# Altium schematic symbol library FBB.SchLib: 1 symbol
Pins are listed as number, name and electrical type; pins without a type are passive.

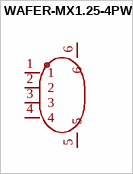
[diagram p0: symbol WAFER-MX1.25-4PWB]

## WAFER-MX1.25-4PWB
designator U??  (value not drawn)
Manufacturer: XUNPU(讯普); Add into BOM: yes; Pins Structure: 1x4P; Pitch: 1.25mm; Reference Series: PicoBlade(MX 1.25); Number of PINs Per Row: 4; Current Rating: 1A; Voltage Rating: 125V; Plastic Material: LCP; Supplementary Features: Auxiliary Solder Pin; Z-Height of the Board: 3.6mm; X-Length of Bottom Edge on Board (Spacing Line): 10mm; Y-Width of Bottom Edge on Board: 5.25mm; Symbol: WAFER-MX1.25-4PWB; Device: WAFER-MX1.25-4PWB; LCSC Part Name: 1x4P 间距:1.25mm 卧贴 系列:PicoBlade(MX 1.25); Supplier Part: C3029361; Manufacturer Part: WAFER-MX1.25-4PWB; Supplier Footprint: SMD,P=1.25mm,卧贴; JLCPCB Part Class: Extended Part; Datasheet: https://item.szlcsc.com/datasheet/WAFER-MX1.25-4PWB/3561373.html; Supplier: LCSC; Convert to PCB: yes; Mounting Type: Surface Mount, Right Angle; Number of Pins: 4P; Number of Rows: 1; Row Spacing: -; Contact Material: Brass; Contact Plating: Tin; Operating Temperature: -25℃~+85℃; Flame Retardant Rating: -; Color: Beige
footprint CONN-SMD_4P-P1.25_WAFER-MX1.25-4PWB
pins: 1, 2, 3, 4, 5, 6